# Altium footprint library new-version.PcbLib: 241 footprints (part 14 of 16)
Each footprint in its own frame and in the unit in brackets; x right, y up, seen from the top. Pads: shape width x height; smd on the part's side, far side on the other; paste and mask are expansions set on the pad; w line width, h text height; cw(c..) or ccw(c..) is an arc to the next point about the centre after c.
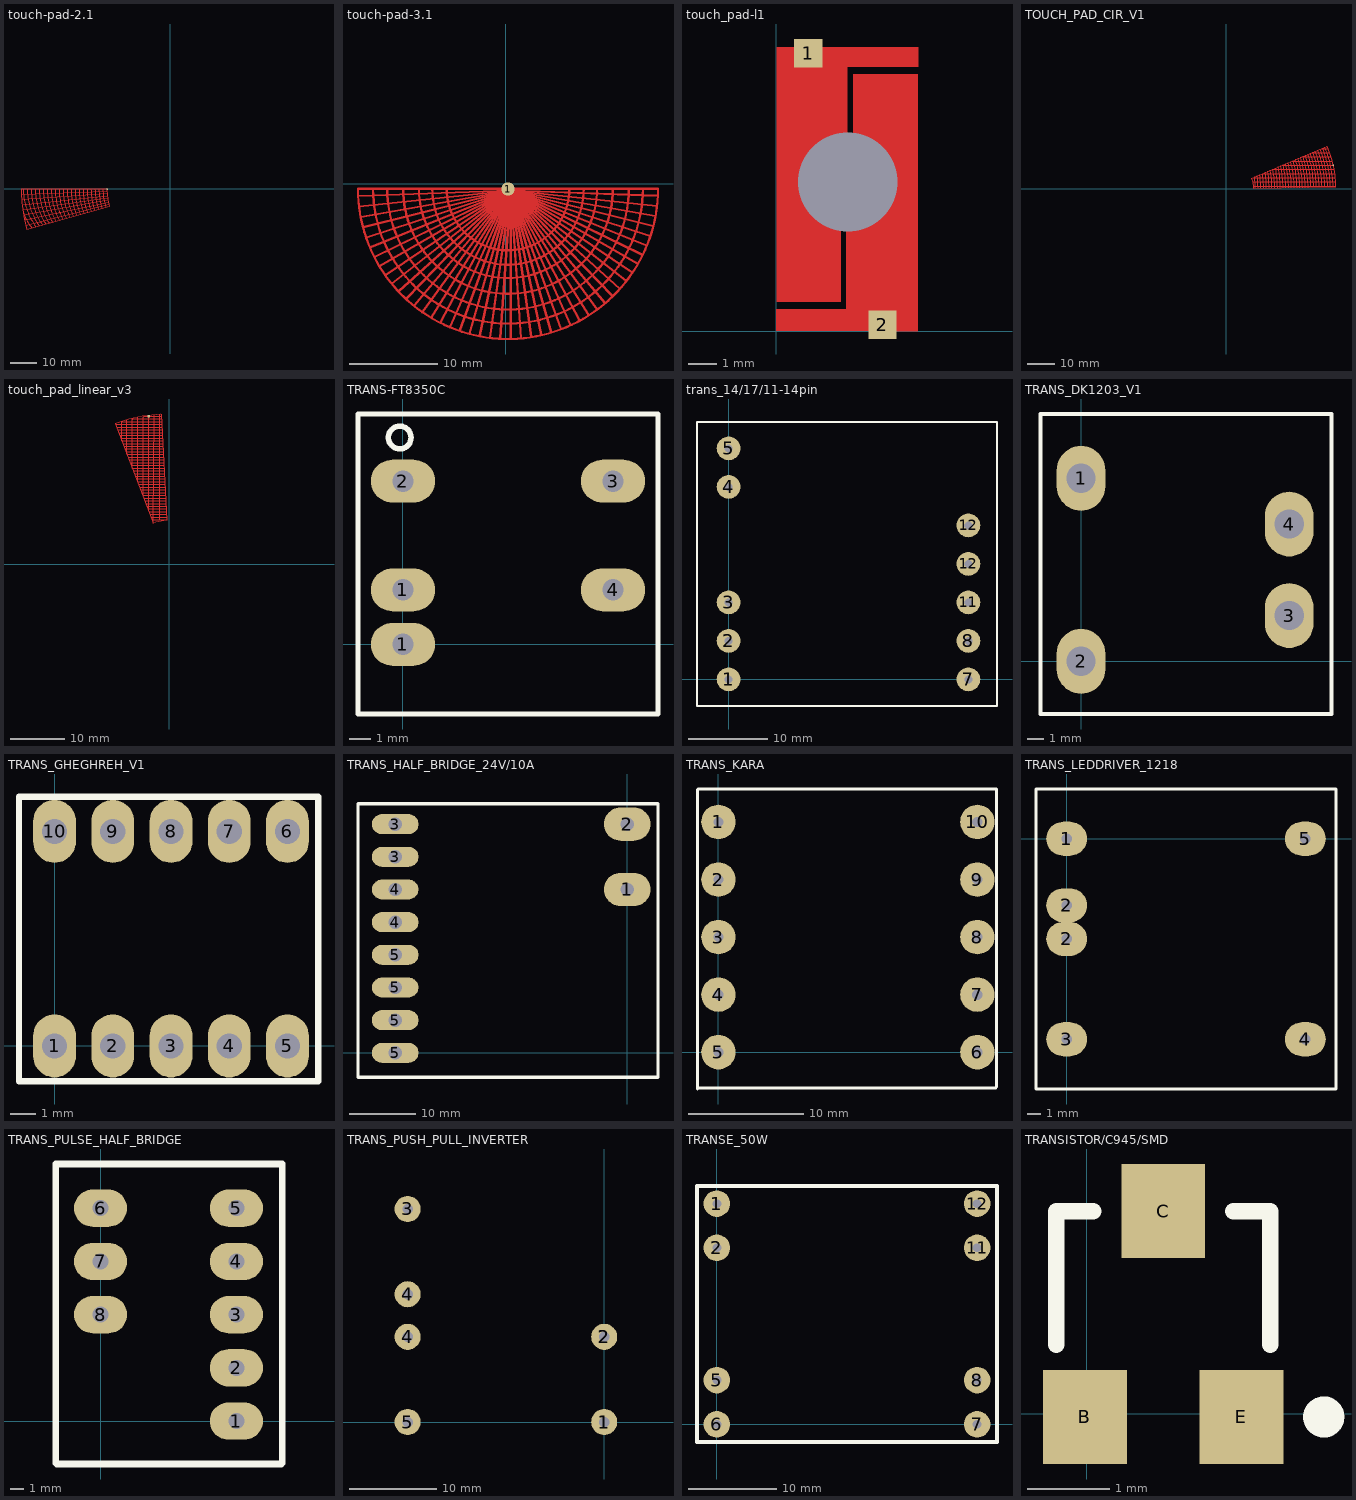
[diagram p13: the footprints below, top view; thin cyan lines are the x and y axes]

## touch-pad-2.1 [mm]
pads (1):
  rrect40% 0.6x0.6 smd paste+0 mask+0: 1(-24.014,-0.116)
Top Layer:
  lines w0.45: -56.978,-0.024 ccw(c-0.003,-0.002) -54.865,-15.372 ; -56.968,0 -24.19,0 ; -56.966,0 -24.188,0 ccw(c0.005,0) -23.277,-6.579 ; -56.933,-1.988 -24.176,-0.844 ; -56.829,-3.974 -24.132,-1.687 ; -56.656,-5.955 -24.058,-2.528 ; -56.414,-7.928 -23.956,-3.366 ; -56.275,-8.839 ccw(c-33.642,-0.29) -52.964,-14.85 ; -56.18,0.009 ccw(c-31.987,0.009) -51.435,-14.382 ; -56.103,-9.892 -23.824,-4.2 ; -55.724,-11.844 -23.663,-5.029 ; -55.277,-13.781 -23.473,-5.852 ; -54.85,-15.367 -23.276,-6.628 ; -54.668,0 ccw(c-30.475,0) -50.171,-14.05 ; -53.144,0 ccw(c-28.951,0) -48.889,-13.704 ; -51.62,0 ccw(c-27.427,0) -47.601,-13.354 ; -50.096,0 ccw(c-25.903,0) -46.307,-13 ; -48.572,0 ccw(c-24.379,0) -45.007,-12.642 ; -47.048,0 ccw(c-22.855,0) -43.701,-12.28 ; -45.524,0 ccw(c-21.331,0) -42.388,-11.914 ; -44,0 ccw(c-19.807,0) -41.068,-11.545 ; -42.476,0 ccw(c-18.283,0) -39.743,-11.172 ; -40.952,0 ccw(c-16.759,0) -38.41,-10.796 ; -39.428,0 ccw(c-15.235,0) -37.071,-10.416 ; -37.904,0 ccw(c-13.711,0) -35.726,-10.033 ; -36.38,0 ccw(c-12.187,0) -34.374,-9.648 ; -34.856,0 ccw(c-10.663,0) -33.015,-9.259 ; -33.332,0 ccw(c-9.139,0) -31.649,-8.867 ; -31.808,0 ccw(c-7.615,0) -30.276,-8.473 ; -30.284,0 ccw(c-6.091,0) -28.879,-8.126 ; -28.76,0 ccw(c-4.567,0) -27.487,-7.746 ; -27.256,0 ccw(c-3.419,0) -26.088,-7.371 ; -25.712,0 ccw(c-1.519,0) -24.677,-7.002

## touch-pad-3.1 [mil]
pads (1):
  round 60 smd: 1(9.31,-22.55)
Top Layer:
  lines w10: -658.86,-53.31 21.31,-29.55 ; -655.05,-100.64 21.31,-29.55 ; -647.75,-147.53 21.31,-29.55 ; -637.44,-193.8 21.31,-29.55 ; -623.53,-239.07 21.31,-29.55 ; -605.45,-282.78 21.31,-29.55 ; -593.11,-23.61 ccw(c9.31,-21.55) 611.74,-22.25 ; -586.83,-326.16 21.31,-29.55 ; -562.69,-366.73 21.31,-29.55 ; -537.05,-406.17 21.31,-29.55 ; -530.28,-23.31 ccw(c9.31,-21.55) 548.9,-22.82 ; -508.37,-443.39 21.31,-29.55 ; -477.42,-478.62 21.31,-29.55 ; -458.87,-21.55 ccw(c9.31,-22.55) 477.49,-21.55 ; -444.11,-511.51 21.31,-29.55 ; -409.48,-542.96 21.31,-29.55 ; -388.43,-24.19 ccw(c9.31,-22.55) 407.05,-21.78 ; -371.01,-569.53 21.31,-29.55 ; -332.42,-595.63 21.31,-29.55 ; -328.83,-21.77 ccw(c9.31,-22.55) 347.45,-21.18 ; -291.46,-617.79 21.31,-29.55 ; -264.73,-21.76 ccw(c9.31,-22.55) 283.35,-23.57 ; -249.73,-638.32 21.31,-29.55 ; -206.26,-654.81 21.31,-29.55 ; -162.01,-668.87 21.31,-29.55 ; -116.42,-677.55 21.31,-29.55 ; -70.97,-686.14 21.31,-29.55 ; -24.8,-688.97 21.31,-29.55 ; 21.31,-690.59 21.31,-29.55 ; 67.41,-688.82 21.31,-29.55 ; 113.07,-682.44 21.31,-29.55 ; 158.22,-673.68 21.31,-29.55 ; 202.83,-662.58 21.31,-29.55 ; 246.18,-647.37 21.31,-29.55 ; 288.72,-630.16 21.31,-29.55 ; 329.25,-608.71 21.31,-29.55 ; 368.44,-585.07 21.31,-29.55 ; 406.54,-559.77 21.31,-29.55 ; 442.64,-531.67 21.31,-29.55 ; 476.16,-500.57 21.31,-29.55 ; 507.9,-467.68 21.31,-29.55 ; 535.71,-431.44 21.31,-29.55 ; 564.28,-395.79 21.31,-29.55 ; 587.12,-356.22 21.31,-29.55 ; 609.17,-316.27 21.31,-29.55 ; 627.95,-274.65 21.31,-29.55 ; 643.98,-231.87 21.31,-29.55 ; 656.09,-187.82 21.31,-29.55 ; 666.86,-143.38 21.31,-29.55 ; 673.62,-98.11 21.31,-29.55 ; 676.74,-52.44 21.31,-29.55 ; 679.25,-21.55 -660.63,-21.55 ccw(c9.31,-22.55) 679.25,-21.03

## touch_pad-l1 [mm]
pads (3):
  rect 1x1 smd paste+0 mask+0: 1(1.129,9.813) 2(3.749,0.23)
  rrect50% 0x0 hole 3.5: 3(2.521,5.272)
Top Layer:
  rectangle: 0.008,1.033 2.292,4
  rectangle: -0.008,0.015 4.955,0.785
  rectangle: 0.503,9.319 5.024,10.031
  rectangle: 0.005,1.046 1.496,10.031
  rectangle: 3.448,-0.007 4.999,9.081
  rectangle: 0.832,6.64 2.509,9.951
  rectangle: 2.715,6.653 4.999,9.081
  rectangle: 2.454,0.717 4.13,4
Top Solder:
  rectangle: -0.028,-0.005 5.005,10.015

## TOUCH_PAD_CIR_V1 [mil]
pads (1):
  rrect50% 20x20 smd paste+0 mask+0: 1(1536.9,338.9)
Top Layer:
  lines w3.94: 362.5,153.43 1449.71,614.93 ; 376.23,158.9 1567.67,158.91 ; 382.79,98.9 1572.3,98.91 ; 391.52,38.9 1574.67,38.91 ; 519.34,218.9 1559.2,218.91 ; 669.22,278.9 1550.47,278.9 ; 803.41,338.9 1536.9,338.9 ; 942.33,398.9 1522.15,398.9 ; 1081.63,458.36 1505.08,458.73 ; 1223.65,518.42 1484.89,518.68 ; 1365.22,578.9 1462.37,578.9
  lines w5: 405.43,171.65 cw(c-1160.16,-0.94) 414.88,9.41 ; 443.97,184.46 cw(c-1120.16,-0.94) 454.87,11.06 ; 481.53,203.96 cw(c-1080.16,-0.94) 494.87,11.38 ; 519.34,220.01 cw(c-1040.16,-0.94) 534.87,10.4 ; 557.16,234.91 cw(c-1000.16,-0.94) 574.87,11.39 ; 594.49,251.9 cw(c-960.16,-0.94) 614.87,10.4 ; 631.83,267.75 cw(c-920.16,-0.94) 654.87,11.04 ; 669.22,282.43 cw(c-880.16,-0.94) 694.86,11.74 ; 706.33,297.79 cw(c-840.16,-0.94) 734.86,12.44 ; 742.92,314.91 cw(c-800.16,-0.94) 774.85,13.14 ; 780.08,328.51 cw(c-760.16,-0.94) 814.85,13.83 ; 816.76,343.66 cw(c-720.16,-0.94) 854.84,14.53 ; 853.05,359.82 cw(c-680.16,-0.94) 894.83,15.23 ; 889.38,375.06 cw(c-640.16,-0.94) 934.79,18.91 ; 925.06,392.22 cw(c-600.16,-0.94) 974.79,18.9 ; 961.41,406.1 cw(c-560.16,-0.94) 1014.79,18.91 ; 995.75,422.23 cw(c-520.55,-4.03) 1054.37,18.02 ; 1031.48,437.13 cw(c-480.55,-4.03) 1094.36,18.71 ; 1067.19,451.59 cw(c-440.55,-4.03) 1134.35,19.41 ; 1102.79,465.89 cw(c-400.55,-4.03) 1174.34,20.11 ; 1138.06,480.77 cw(c-360.55,-4.03) 1214.33,20.81 ; 1172.67,497.13 cw(c-320.55,-4.03) 1254.28,24.01 ; 1208.21,510.22 cw(c-280.55,-4.03) 1294.28,24.01 ; 1242.34,526.91 cw(c-240.55,-4.03) 1334.28,24.01 ; 1278.32,542.18 cw(c-200.16,-0.94) 1374.67,27.1 ; 1313.47,555.2 cw(c-160.16,-0.94) 1414.67,27.1 ; 1347.24,571.43 cw(c-120.16,-0.94) 1454.67,27.1 ; 1381.49,585.97 cw(c-80.16,-0.94) 1494.67,27.1 ; 1415.59,600.44 cw(c-40.16,-0.94) 1534.67,27.1 ; 1449.55,614.86 cw(c-0.16,-0.94) 1574.67,27.1
  lines w6: 362.5,153.43 1449.71,614.93 ; 362.81,152.73 cw(c0.1,-0.39) 393.71,8.14 ; 1449.55,614.86 cw(c-0.16,-0.94) 1574.67,27.1 ; 1574.67,27.1 393.68,6.48 1574.67,27.1

## touch_pad_linear_v3 [mm]
pads (1):
  rrect50% 0.5x0.5 smd paste+0 mask+0: 1(-3.726,27.096)
Top Layer:
  lines w0.17: -9.863,25.678 -2.875,7.473 ; -9.82,25.695 cw(c-0.008,0.004) -1.49,27.464 ; -9.721,25.596 -1.393,25.596 ; -9.55,25.096 -1.364,25.096 ; -9.364,24.596 -1.364,24.596 ; -9.179,24.096 -1.334,24.096 ; -8.965,23.596 -1.305,23.596 ; -8.822,23.096 -1.247,23.096 ; -8.651,22.596 -1.246,22.596 ; -8.523,26.096 -1.393,26.096 ; -8.395,22.096 -1.263,22.096 ; -8.209,21.596 -1.209,21.596 ; -8.038,21.096 -1.134,21.096 ; -7.838,20.596 -1.164,20.596 ; -7.639,20.096 -1.138,20.096 ; -7.454,19.596 -1.072,19.596 ; -7.281,19.096 -1.082,19.096 ; -7.103,18.596 -1.008,18.596 ; -6.895,18.096 -1.008,18.096 ; -6.84,26.596 -1.398,26.596 ; -6.716,17.596 -0.993,17.596 ; -6.494,17.096 -0.963,17.096 ; -6.33,16.596 -0.949,16.596 ; -6.138,16.096 -0.874,16.096 ; -5.912,15.596 -0.889,15.596 ; -5.736,15.096 -0.889,15.096 ; -5.543,14.596 -0.845,14.596 ; -5.366,14.096 -0.785,14.096 ; -5.142,13.596 -0.788,13.596 ; -4.965,13.096 -0.714,13.096 ; -4.82,12.596 -0.711,12.596 ; -4.595,12.096 -0.711,12.096 ; -4.53,27.096 -1.431,27.096 ; -4.372,11.596 -0.643,11.596 ; -4.2,11.096 -0.692,11.096 ; -4.044,10.596 -0.638,10.596 ; -3.783,10.096 -0.576,10.096 ; -3.637,9.596 -0.558,9.596 ; -3.437,9.096 -0.54,9.096 ; -3.255,8.596 -0.503,8.596 ; -3.036,8.096 -0.503,8.096 ; -2.858,7.48 cw(c-0.008,0.004) -0.462,7.992 ; -1.448,27.467 -0.427,7.993
  lines w0.175: -7.726,20.096 -7.726,26.376 ; -6.84,26.596 -6.726,26.482 -6.726,17.596 ; -5.726,15.096 -5.726,26.876 ; -4.726,12.596 -4.726,26.9 -4.53,27.096 ; -3.726,10.096 -3.726,27.214 ; -2.858,7.48 -2.726,27.329 ; -1.726,8.096 -1.726,27.404
  lines w0.2: -8.651,22.596 -8.651,26.096 -8.523,26.096

## TRANS-FT8350C [mm]
pads (5):
  oval 3x2 hole 1: 1(0,0) 1(0,2.54) 2(0,7.62) 3(9.8,7.62) 4(9.8,2.54)
Top Overlay:
  circle w0.254: c-0.152,9.652 r0.529
  lines w0.254: -2.1,-3.25 -2.1,10.75 11.9,10.75 11.9,-3.25 -2.1,-3.25

## trans_14/17/11-14pin [mm]
pads (10):
  round 3 hole 1: 1(0,0) 2(0,4.877) 3(0,9.754) 4(0,24.384) 5(0,29.261) 7(30.378,0) 8(30.378,4.877) 11(30.378,9.754) 12(30.378,14.63) 12(30.378,19.507)
Top Overlay:
  lines w0.254: -4,-3.378 34,-3.378 34,32.622 -4,32.622 -4,-3.378

## TRANS_DK1203_V1 [mm]
pads (4):
  oval 3x4 hole 1.8: 1(0,11.278) 2(0,0) 3(12.827,2.819) 4(12.827,8.458)
Top Overlay:
  lines w0.254: -2.5,-3.245 -2.5,15.242 15.431,15.242 15.431,-3.245 -2.5,-3.245

## TRANS_GHEGHREH_V1 [mm]
pads (10):
  oval 1.7x2.5 hole 1: 1(0,0) 2(2.31,0) 3(4.62,0) 4(6.93,0) 5(9.24,0) 6(9.24,8.51) 7(6.93,8.51) 8(4.62,8.51) 9(2.31,8.51) 10(0,8.51)
Top Overlay:
  lines w0.254: -1.409,-1.396 10.454,-1.396 10.454,9.879 -1.409,9.879 -1.409,-1.396

## TRANS_HALF_BRIDGE_24V/10A [mm]
pads (10):
  oval 7x5 hole 2: 1(0,24.5) 2(0,34.3)
  oval 7x3 hole 2: 3(-34.8,29.4) 3(-34.8,34.3) 4(-34.8,19.6) 4(-34.8,24.5) 5(-34.8,0) 5(-34.8,4.9) 5(-34.8,9.8) 5(-34.8,14.7)
Top Overlay:
  lines w0.5: -40.386,-3.662 -40.386,37.338 4.614,37.338 4.614,-3.662 -40.386,-3.662

## TRANS_KARA [mm]
pads (10):
  round 3 hole 0.9: 1(0,20) 2(0,15) 3(0,10) 4(0,5) 5(0,0) 6(22.5,0) 7(22.5,5) 8(22.5,10) 9(22.5,15) 10(22.5,20)
Top Overlay:
  lines w0.254: -1.834,-3.203 -1.765,-3.134 24.072,-3.134 24.171,-3.034 24.171,22.866 -1.769,22.866 -1.834,22.801 -1.834,-3.203

## TRANS_LEDDRIVER_1218 [mm]
pads (6):
  oval 3x2.5 hole 0.762: 1(0,0) 2(0,-7.34) 2(0,-4.88) 3(0,-14.7) 4(17.5,-14.7) 5(17.5,0)
Top Overlay:
  lines w0.254: -2.25,-18.35 -2.25,3.65 19.75,3.65 19.75,-18.35 -2.25,-18.35

## TRANS_PULSE_HALF_BRIDGE [mm]
pads (8):
  oval 4x2.8 hole 1.2: 1(10.211,0) 2(10.211,4) 3(10.211,8.001) 4(10.211,12.002) 5(10.211,16.002) 6(0,16.002) 7(0,12.002) 8(0,8.001)
Top Overlay:
  lines w0.5: -3.353,-3.175 -3.353,19.325 13.647,19.325 13.647,-3.175 13.596,-3.226 -3.302,-3.226

## TRANS_PUSH_PULL_INVERTER [mm]
pads (8):
  round 3 hole 1.2: 1(0,0) 1(0,0) 2(0,9.8) 2(0,9.8) 3(-22.6,24.5) 4(-22.6,9.8) 4(-22.6,14.7) 5(-22.6,0)
Bottom Overlay:
  lines w0.5: -26.063,-4.826 -26.063,29.674 3.937,29.674 3.937,-4.826 -26.063,-4.826

## TRANSE_50W [mm]
pads (8):
  round 3 hole 1: 1(0,25) 2(0,20) 5(0,5) 6(0,0) 7(29.5,0) 8(29.5,5) 11(29.5,20) 12(29.5,25)
Top Overlay:
  lines w0.5: -2.25,-2.007 -2.25,27 31.75,27 31.75,-2.007 -2.25,-2.007

## TRANSISTOR/C945/SMD [mil]
pads (3):
  rect 40x45 smd: B(-0.91,-1.64) C(36.49,96.79) E(73.89,-1.64)
Top Overlay:
  circle w9.84: c113.26,-1.64 r4.92
  lines w7.87: -14.69,32.81 -14.69,96.79 3.03,96.79 ; 69.96,96.79 87.67,96.79 87.67,32.81